# EAGLE library part ST3241EBPR (library circuit_tree)
IC
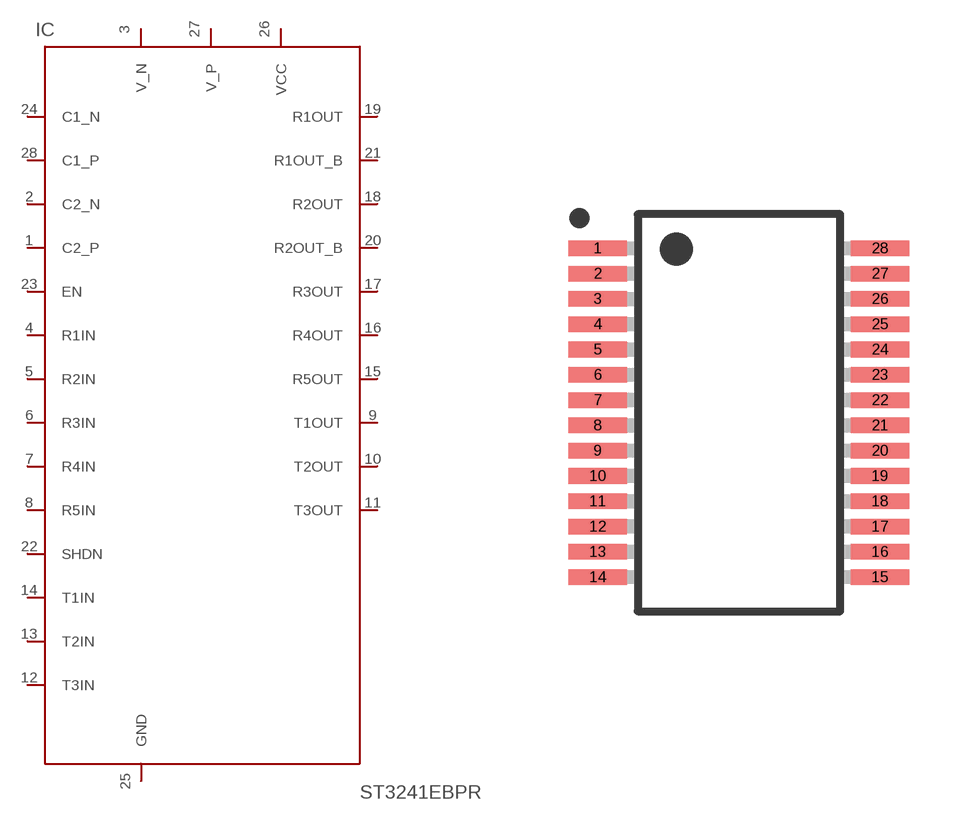
[diagram p6: symbol with the pads of SSOP-28; footprint SSOP-28]

Designator prefix IC

## ST3241EBPR  [SSOP-28]
1  C2_P  pas
2  C2_N  pas
3  V_N  pas
4  R1IN  pas
5  R2IN  pas
6  R3IN  pas
7  R4IN  pas
8  R5IN  pas
9  T1OUT  pas
10  T2OUT  pas
11  T3OUT  pas
12  T3IN  pas
13  T2IN  pas
14  T1IN  pas
15  R5OUT  pas
16  R4OUT  pas
17  R3OUT  pas
18  R2OUT  pas
19  R1OUT  pas
20  R2OUT_B  pas
21  R1OUT_B  pas
22  SHDN  pas
23  EN  pas
24  C1_N  pas
25  GND  pas
26  VCC  pas
27  V_P  pas
28  C1_P  pas

## Footprint SSOP-28 (pad centres in mm)
smd 1.5 x 0.4: 1 -3.625,4.225; 2 -3.625,3.575; 3 -3.625,2.925; 4 -3.625,2.275; 5 -3.625,1.625; 6 -3.625,0.975; 7 -3.625,0.325; 8 -3.625,-0.325; 9 -3.625,-0.975; 10 -3.625,-1.625; 11 -3.625,-2.275; 12 -3.625,-2.925; 13 -3.625,-3.575; 14 -3.625,-4.225; 15 3.625,-4.225; 16 3.625,-3.575; 17 3.625,-2.925; 18 3.625,-2.275; 19 3.625,-1.625; 20 3.625,-0.975; 21 3.625,-0.325; 22 3.625,0.325; 23 3.625,0.975; 24 3.625,1.625; 25 3.625,2.275; 26 3.625,2.925; 27 3.625,3.575; 28 3.625,4.225